# EAGLE library part TPS5450 (library 1dah)
5A buck converter 6A peak 5.5-36V input
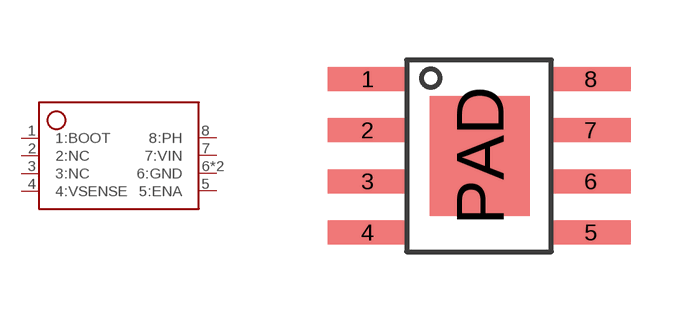
[diagram p69: symbol with the pads of SOIC8-POWERPAD; footprint SOIC8-POWERPAD]

Designator prefix -

## TPS5450  [SOIC8-POWERPAD]
1  1:BOOT
2  2:NC
3  3:NC
4  4:VSENSE
5  5:ENA
6  6:GND
7  7:VIN
8  8:PH
PAD  6:GND

## Footprint SOIC8-POWERPAD (pad centres in mm)
smd 2 x 0.6: 1 -2.8,1.92; 2 -2.8,0.64; 3 -2.8,-0.64; 4 -2.8,-1.92; 5 2.78,-1.92; 6 2.78,-0.64; 7 2.78,0.64; 8 2.78,1.92
smd 2.5 x 3: PAD 0,0